# Altium footprint library ARCOM_Resistors.PcbLib: 22 footprints (part 2 of 2)
Each footprint in its own frame and in the unit in brackets; x right, y up, seen from the top. Pads: shape width x height; smd on the part's side, far side on the other; paste and mask are expansions set on the pad; w line width, h text height; cw(c..) or ccw(c..) is an arc to the next point about the centre after c.
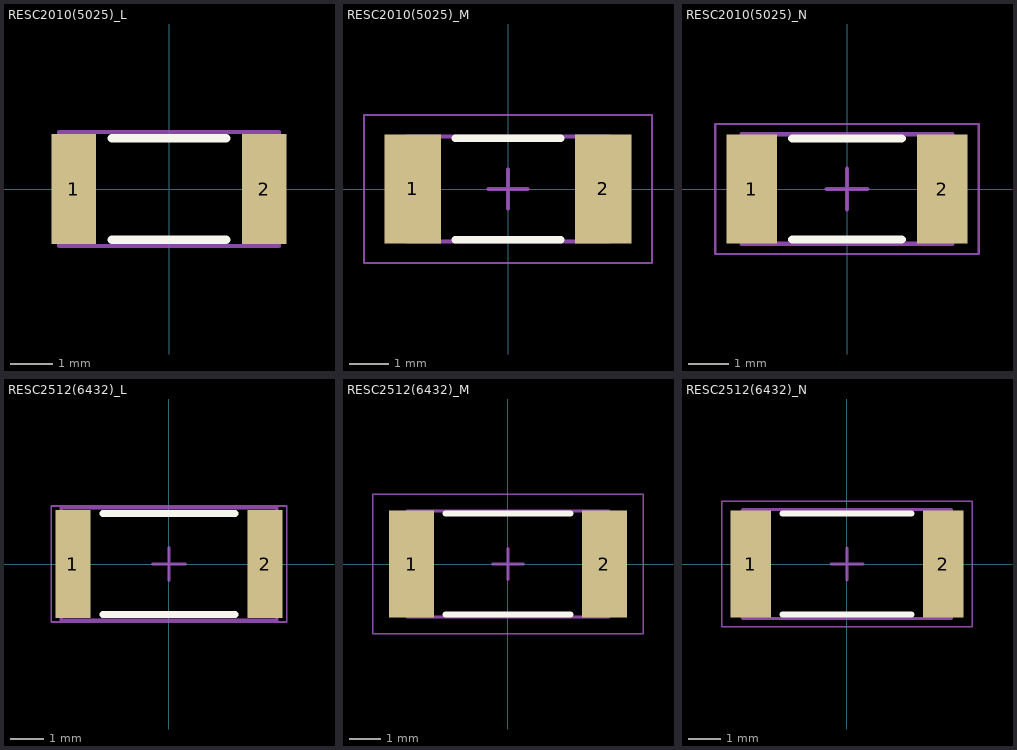
[diagram p1: the footprints below, top view; thin cyan lines are the x and y axes]

## RESC2010(5025)_L [mm] "Chip Resistor, Body 5.0x2.5mm, IPC High Density"
height 0.71
pads (2):
  rect 1.05x2.6 smd: 1(-2.25,0) 2(2.25,0)
Top Overlay:
  lines w0.2: -1.35,-1.2 1.35,-1.2 ; -1.35,1.2 1.35,1.2
Top 3D Body:
  lines w0.1: -2.6,-1.35 -2.6,1.35 2.6,1.35 2.6,-1.35 -2.6,-1.35
Top Designator:
  text ".Designator" at -7.618,-0.508 h1.52

## RESC2010(5025)_M [mm] "Chip Resistor, Body 5.0x2.5mm, IPC Low Density"
height 0.71
pads (2):
  rect 1.45x2.8 smd: 1(-2.45,0) 2(2.45,0)
Top Overlay:
  lines w0.2: -1.35,-1.3 1.35,-1.3 ; -1.35,1.3 1.35,1.3
Top 3D Body:
  lines w0.1: -2.6,-1.35 2.6,-1.35 2.6,1.35 -2.6,1.35 -2.6,-1.35
Top Courtyard:
  lines w0.05: -3.7,-1.9 3.7,-1.9 3.7,1.9 -3.7,1.9 -3.7,-1.9
  lines w0.1: -0.5,0 0.5,0 ; 0,-0.5 0,0.5
  text ".Designator" at -3.556,2.388 h0.76
Top Designator:
  text ".Designator" at -7.386,0.168 h1.52
3D body: height 0.71, standoff 0, extent 1.98,-1.35 2.6,1.35
3D body: height 0.71, standoff 0, extent -1.98,-1.35 1.98,1.35
3D body: height 0.71, standoff 0, extent -2.6,-1.35 -1.98,1.35

## RESC2010(5025)_N [mm] "Chip Resistor, Body 5.0x2.5mm, IPC Medium Density"
height 0.71
pads (2):
  rect 1.25x2.7 smd: 1(-2.35,0) 2(2.35,0)
Top Overlay:
  lines w0.2: -1.35,-1.25 1.35,-1.25 ; -1.35,1.25 1.35,1.25
Top 3D Body:
  lines w0.1: -2.6,-1.35 -2.6,1.35 2.6,1.35 2.6,-1.35 -2.6,-1.35
Top Courtyard:
  lines w0.05: -3.25,-1.6 -3.25,1.6 3.25,1.6 3.25,-1.6 -3.25,-1.6
  lines w0.1: -0.5,0 0.5,0 ; 0,-0.5 0,0.5
  text ".Designator" at -3.15,2.007 h0.76
Top Designator:
  text ".Designator" at -6.958,0.127 h1.52
3D body: height 0.71, standoff 0, extent -2.6,-1.35 -1.98,1.35
3D body: height 0.71, standoff 0, extent -1.98,-1.35 1.98,1.35
3D body: height 0.71, standoff 0, extent 1.98,-1.35 2.6,1.35

## RESC2512(6432)_L [mm] "Chip Resistor, Body 6.4x3.2mm, IPC High Density"
height 0.75
pads (2):
  rect 1.05x3.25 smd: 1(-2.9,0) 2(2.9,0)
Top Overlay:
  lines w0.2: -2,-1.525 2,-1.525 ; -2,1.525 2,1.525
Top 3D Body:
  lines w0.1: -3.25,-1.7 -3.25,1.7 3.25,1.7 3.25,-1.7 -3.25,-1.7
Top Courtyard:
  lines w0.05: -3.55,-1.75 -3.55,1.75 3.55,1.75 3.55,-1.75 -3.55,-1.75
  lines w0.1: -0.5,0 0.5,0 ; 0,-0.5 0,0.5
  text ".Designator" at -3.429,2.21 h0.76
Top Designator:
  text ".Designator" at -7.247,0.154 h1.52
3D body: height 0.75, standoff 0, extent 2.63,-1.7 3.25,1.7
3D body: height 0.75, standoff 0, extent -2.63,-1.7 2.63,1.7
3D body: height 0.75, standoff 0, extent -3.25,-1.7 -2.63,1.7

## RESC2512(6432)_M [mm] "Chip Resistor, Body 6.4x3.2mm, IPC Low Density"
height 0.75
pads (2):
  rect 1.45x3.45 smd: 1(-3.1,0) 2(3.1,0)
Top Overlay:
  lines w0.2: -2,-1.625 2,-1.625 ; -2,1.625 2,1.625
Top 3D Body:
  lines w0.1: -3.25,-1.7 3.25,-1.7 3.25,1.7 -3.25,1.7 -3.25,-1.7
Top Courtyard:
  lines w0.05: -4.35,-2.25 4.35,-2.25 4.35,2.25 -4.35,2.25 -4.35,-2.25
  lines w0.1: -0.5,0 0.5,0 ; 0,-0.5 0,0.5
  text ".Designator" at -4.267,2.667 h0.76
Top Designator:
  text ".Designator" at -7.627,0.133 h1.52
3D body: height 0.75, standoff 0, extent 2.63,-1.7 3.25,1.7
3D body: height 0.75, standoff 0, extent -2.63,-1.7 2.63,1.7
3D body: height 0.75, standoff 0, extent -3.25,-1.7 -2.63,1.7

## RESC2512(6432)_N [mm] "Chip Resistor, Body 6.4x3.2mm, IPC Medium Density"
height 0.75
pads (2):
  rect 1.25x3.35 smd: 1(-3,0) 2(3,0)
Top Overlay:
  lines w0.2: -2,-1.575 2,-1.575 ; -2,1.575 2,1.575
Top 3D Body:
  lines w0.1: -3.25,-1.7 -3.25,1.7 3.25,1.7 3.25,-1.7 -3.25,-1.7
Top Courtyard:
  lines w0.05: -3.9,-1.95 -3.9,1.95 3.9,1.95 3.9,-1.95 -3.9,-1.95
Top Component Center:
  lines w0.1: -0.5,0 0.5,0 ; 0,-0.5 0,0.5
Top Designator:
  text ".Designator" at -2.973,-3.066 h1.52
3D body: height 0.75, standoff 0, extent 2.63,-1.7 3.25,1.7
3D body: height 0.75, standoff 0, extent -2.63,-1.7 2.63,1.7
3D body: height 0.75, standoff 0, extent -3.25,-1.7 -2.63,1.7